# Altium schematic symbol library Components - 30.01.24 - 14.28.SchLib: 1 symbol
Pins are listed as number, name and electrical type; pins without a type are passive.

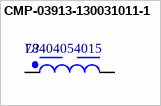
[diagram p0: symbol CMP-03913-130031011-1]

## CMP-03913-130031011-1
designator L?, comment 78404054015
78404054015 Power Inductor, Smd, 1.5Uh, 5.22A Rohs Compliant: Yes |Wurth Elektronik 78404054015; NexarPartId: 130031011; DC Resistance (DCR): 15mΩ; Inductance: 1.5µH; Voltage Rating: 80V; Height: 4mm; Current Rating: 5.22A; RoHS: Compliant; Width: 5mm; Max Operating Temperature: 150°C; Ambient Temperature Range High: 100°C; Length: 5mm; Min Operating Temperature: -50°C; Ambient Temperature Range Low: -50°C
footprint WE-LQSA_5040 (SMD Power Inductor, body 5.00x5.00mm)
pins: 1, 2